# EAGLE library part 74*1G3157 (library PulseOximeterECG_AU)
Single-Pole, Double-Throw Analog Switch Source: http://focus.ti.com/lit/ds/symlink/sn74lvc1g3157.pdf
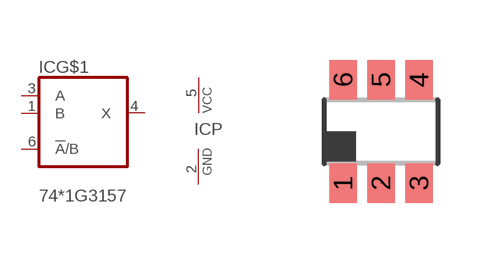
[diagram p0: symbol with the pads of DBV_R-PDSO-G6; footprint DBV_R-PDSO-G6]

Designator prefix IC; gates G$1=743157 P=PWRN-1

## 741G3157DBVR  [DBV_R-PDSO-G6]
1  G$1:B
2  P:GND  pwr
3  G$1:A
4  G$1:X
5  P:VCC  pwr
6  G$1:!A!/B  in

## Footprint DBV_R-PDSO-G6 (pad centres in mm)
DBV (R-PDSO-G6) PLASTIC SMALL-OUTLINE PACKAGE SOT (SOT-23) - DBV Source: http://focus.ti.com/lit/ds/symlink/sn74lvc1g3157.
smd 0.69 x 0.99: 1 -0.95,-1.29; 2 0,-1.29; 3 0.95,-1.29; 4 0.95,1.3; 5 0,1.3; 6 -0.95,1.3